# Altium schematic symbol library TX5813.SchLib: 1 symbol
Pins are listed as number, name and electrical type; pins without a type are passive.

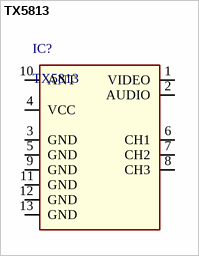
[diagram p0: symbol TX5813]

## TX5813
designator IC?
PDF: http://www.banggood.com/FPV-5_8G-10mW-Wireless-Audio-Video-Transmitter-Module-TX5813-p-84761.html; ID: TX5813; PRICE: 14.9500; BUY_LINK: http://www.banggood.com/FPV-5_8G-10mW-Wireless-Audio-Video-Transmitter-Module-TX5813-p-84761.html
footprint TX5813
pins: 1 VIDEO, 2 AUDIO, 3 GND, 4 VCC, 5 GND, 6 CH1, 7 CH2, 8 CH3, 9 GND, 10 ANT, 11 GND, 12 GND, 13 GND